# Altium footprint library dinazu.PcbLib: 22 footprints (part 1 of 2)
Each footprint in its own frame and in the unit in brackets; x right, y up, seen from the top. Pads: shape width x height; smd on the part's side, far side on the other; paste and mask are expansions set on the pad; w line width, h text height; cw(c..) or ccw(c..) is an arc to the next point about the centre after c.
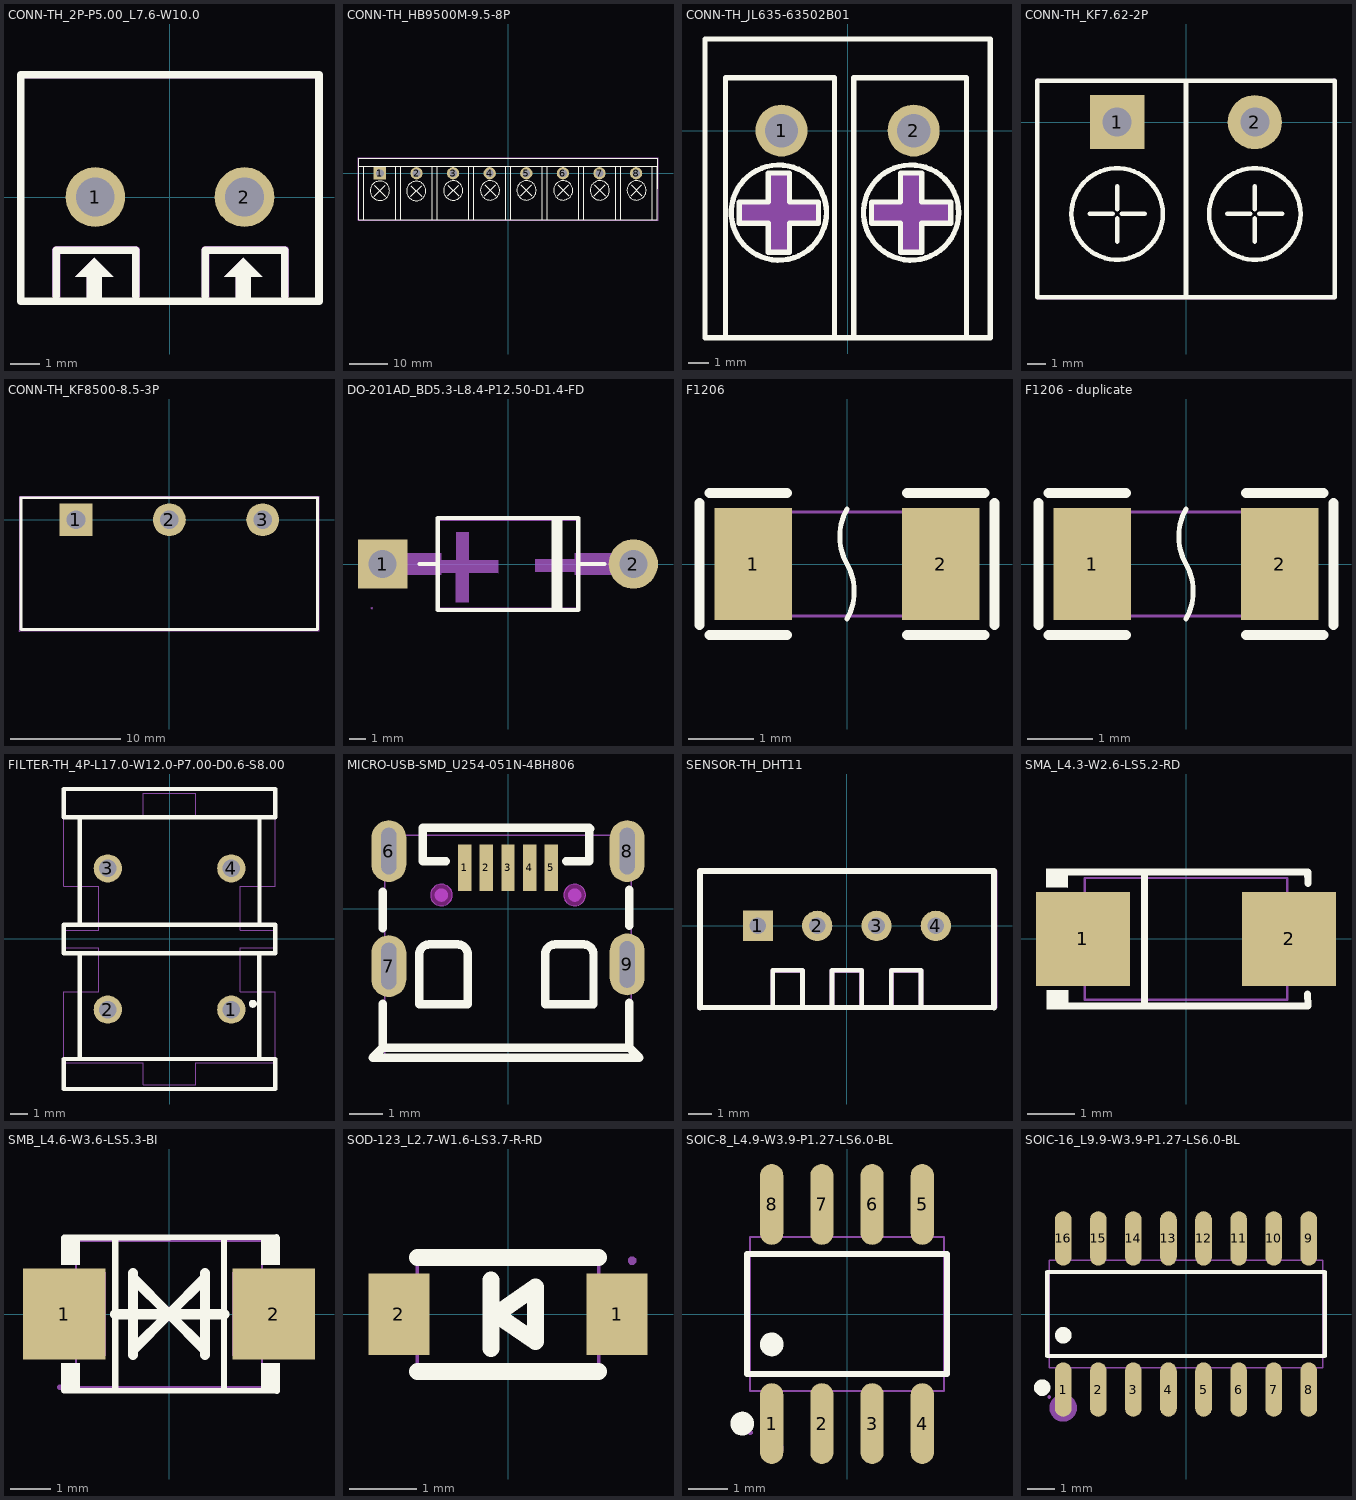
[diagram p0: the footprints below, top view; thin cyan lines are the x and y axes]

## CONN-TH_2P-P5.00_L7.6-W10.0 [mm]
pads (2):
  round 2 hole 1.3: 1(-2.5,0) 2(2.5,0)
Top Overlay:
  region: 2.206,-3.556 2.206,-2.667 1.825,-2.667 2.46,-2.032 3.095,-2.667 2.714,-2.667 2.714,-3.556
  region: -2.794,-3.556 -2.794,-2.667 -3.175,-2.667 -2.54,-2.032 -1.905,-2.667 -2.286,-2.667 -2.286,-3.556
  lines w0.254: -3.81,-3.302 -3.81,-1.778 -1.143,-1.778 -1.143,-3.302 ; 1.19,-3.302 1.19,-1.778 3.857,-1.778 3.857,-3.302 ; -5,-3.5 -5,4.1 5,4.1 5,-3.5 -5,-3.5
Mechanical 6:
  region: 1.063,-3.302 1.063,-1.778 1.063,-1.753 1.082,-1.706 1.118,-1.67 1.165,-1.651 1.19,-1.651 3.857,-1.651 3.882,-1.651 3.929,-1.67 3.965,-1.706 3.984,-1.753 3.984,-1.778 3.984,-3.302 3.984,-3.355 3.909,-3.429 3.804,-3.429 3.73,-3.355 3.73,-3.302 3.73,-1.905 1.317,-1.905 1.317,-3.302 1.317,-3.355 1.242,-3.429 1.137,-3.429 1.063,-3.355 1.063,-3.302
  region: 2.206,-3.556 2.206,-2.667 1.825,-2.667 2.46,-2.032 3.095,-2.667 2.714,-2.667 2.714,-3.556
  region: -2.794,-3.556 -2.794,-2.667 -3.175,-2.667 -2.54,-2.032 -1.905,-2.667 -2.286,-2.667 -2.286,-3.556
  region: -3.937,-3.302 -3.937,-1.778 -3.937,-1.753 -3.918,-1.706 -3.882,-1.67 -3.835,-1.651 -3.81,-1.651 -1.143,-1.651 -1.118,-1.651 -1.071,-1.67 -1.035,-1.706 -1.016,-1.753 -1.016,-1.778 -1.016,-3.302 -1.016,-3.355 -1.091,-3.429 -1.196,-3.429 -1.27,-3.355 -1.27,-3.302 -1.27,-1.905 -3.683,-1.905 -3.683,-3.302 -3.683,-3.355 -3.758,-3.429 -3.863,-3.429 -3.937,-3.355 -3.937,-3.302
Mechanical 15:
  region: 2.2,0.5 2.8,0.5 2.8,-0.5 2.2,-0.5
  region: -2.8,0.5 -2.2,0.5 -2.2,-0.5 -2.8,-0.5
  region: -4.94,-3.5 -4.94,-3.475 -4.975,-3.44 -5.025,-3.44 -5.06,-3.475 -5.06,-3.5 -5.06,-3.525 -5.025,-3.56 -4.975,-3.56 -4.94,-3.525 -4.94,-3.5
  lines w0.051: -5,-3.5 5,-3.5 5,4 -5,4 -5,-3.5
3D body "3D_PCB1_2023-10-07.step": height 11.6, standoff -2.2, extent -7.079,-3.5 5,5.901

## CONN-TH_HB9500M-9.5-8P [mm]
pads (8):
  rect 3.21x3.2 hole 2: 1(-33.25,0)
  round 3.2 hole 2: 2(-23.75,0) 3(-14.25,0) 4(-4.75,0) 5(4.75,0) 6(14.25,0) 7(23.75,0) 8(33.25,0)
Top Overlay:
  circle w0.254: c33.359,-4.437 r2.5
  circle w0.254: c23.834,-4.437 r2.5
  circle w0.254: c14.309,-4.437 r2.5
  circle w0.254: c4.784,-4.437 r2.5
  circle w0.254: c-33.25,-4.52 r2.5
  circle w0.254: c-23.82,-4.59 r2.5
  circle w0.254: c-14.22,-4.46 r2.5
  circle w0.254: c-4.66,-4.44 r2.5
  lines w0.254: -38.75,1.855 38.75,1.855 ; -37.45,-12.051 -37.45,1.749 ; -34.664,-5.934 -31.836,-3.106 ; -34.664,-3.106 -31.836,-5.934 ; -29.15,-12.051 -29.15,1.749 ; -27.85,-12.051 -27.85,1.749 ; -25.234,-6.004 -22.406,-3.176 ; -25.234,-3.176 -22.406,-6.004 ; -19.65,-12.051 -19.65,1.749 ; -18.35,-12.051 -18.35,1.749 ; -15.634,-5.874 -12.806,-3.046 ; -15.634,-3.046 -12.806,-5.874 ; -10.15,-12.051 -10.15,1.749 ; -8.85,-12.051 -8.85,1.749 ; -6.074,-5.854 -3.246,-3.026 ; -6.074,-3.026 -3.246,-5.854 ; -0.55,-12.051 -0.55,1.749 ; 0.655,-12.027 0.655,1.773 ; 3.37,-5.851 6.199,-3.022 ; 3.37,-3.022 6.199,-5.851 ; 8.855,-12.027 8.855,1.773 ; 8.88,-12.027 8.88,1.773 ; 10.154,-12.027 10.154,1.773 ; 10.18,-12.027 10.18,1.773 ; 12.895,-5.851 15.724,-3.022 ; 12.895,-3.022 15.724,-5.851 ; 18.38,-12.027 18.38,1.773 ; 18.405,-12.027 18.405,1.773 ; 19.679,-12.027 19.679,1.773 ; 19.705,-12.027 19.705,1.773 ; 22.42,-5.851 25.249,-3.022 ; 22.42,-3.022 25.249,-5.851 ; 27.905,-12.027 27.905,1.773 ; 27.93,-12.027 27.93,1.773 ; 29.204,-12.027 29.204,1.773 ; 29.23,-12.027 29.23,1.773 ; 31.945,-5.851 34.774,-3.022 ; 31.945,-3.022 34.774,-5.851 ; 37.45,-12.051 37.45,1.749 ; 37.475,-12.051 37.475,1.749 ; 38.75,3.949 -38.75,3.95 -38.75,-12.051 38.75,-12.051 38.807,3.914 ; 38.775,-12.051 38.775,1.749
Mechanical 15:
  drawing of 13 lines, arcs and shapes, not listed

## CONN-TH_JL635-63502B01 [mm]
pads (2):
  round 2.5 hole 1.6: 1(-3.175,0) 2(3.175,0)
Top Overlay:
  circle w0.254: c-3.302,-3.937 r2.286
  circle w0.254: c3.048,-3.937 r2.286
  lines w0.254: -5.863,-9.95 -5.863,2.54 -0.635,2.54 -0.635,-9.95 ; 0.301,-9.95 0.301,2.54 5.715,2.54 5.715,-9.95 ; -6.85,-9.95 -6.85,4.4 6.85,4.4 6.85,-9.95 -6.85,-9.95 ; -5.207,-4.445 -5.207,-3.429 -3.81,-3.429 -3.81,-2.032 -2.794,-2.032 -2.794,-3.429 -1.397,-3.429 -1.397,-4.445 -2.794,-4.445 -2.794,-5.842 -3.81,-5.842 -3.81,-4.445 -5.207,-4.445 ; 1.143,-4.445 1.143,-3.429 2.54,-3.429 2.54,-2.032 3.556,-2.032 3.556,-3.429 4.953,-3.429 4.953,-4.445 3.556,-4.445 3.556,-5.842 2.54,-5.842 2.54,-4.445 1.143,-4.445
Mechanical 6:
  region: -5.207,-4.445 -5.207,-3.429 -3.81,-3.429 -3.81,-2.032 -2.794,-2.032 -2.794,-3.429 -1.397,-3.429 -1.397,-4.445 -2.794,-4.445 -2.794,-5.842 -3.81,-5.842 -3.81,-4.445
  region: 1.143,-4.445 1.143,-3.429 2.54,-3.429 2.54,-2.032 3.556,-2.032 3.556,-3.429 4.953,-3.429 4.953,-4.445 3.556,-4.445 3.556,-5.842 2.54,-5.842 2.54,-4.445
Mechanical 15:
  region: -6.79,-9.95 -6.79,-9.925 -6.825,-9.89 -6.875,-9.89 -6.91,-9.925 -6.91,-9.95 -6.91,-9.975 -6.875,-10.01 -6.825,-10.01 -6.79,-9.975 -6.79,-9.95
  region: 2.675,0.35 3.675,0.35 3.675,-0.35 2.675,-0.35
  region: -3.675,0.35 -2.675,0.35 -2.675,-0.35 -3.675,-0.35
  lines w0.051: -6.85,-9.95 -6.85,4.35 6.85,4.35 6.85,-9.95 -6.85,-9.95
3D body "C409150.step": height 14.6, standoff -1.9, extent -6.965,-10.014 6.964,5.834

## CONN-TH_KF7.62-2P [mm]
height 0.254
pads (2):
  rect 3x3 hole 1.6: 1(-3.81,0)
  round 3 hole 1.6: 2(3.81,0)
Top Overlay:
  circle w0.254: c3.81,-5.08 r2.53
  circle w0.254: c-3.81,-5.08 r2.53
  lines w0.254: -5.334,-5.08 -4.064,-5.08 ; -3.81,-6.604 -3.81,-5.334 ; -3.81,-4.826 -3.81,-3.556 ; -3.556,-5.08 -2.286,-5.08 ; 0,-9.7 0,2.159 ; 2.286,-5.08 3.556,-5.08 ; 3.81,-6.604 3.81,-5.334 ; 3.81,-4.826 3.81,-3.556 ; 4.064,-5.08 5.334,-5.08 ; -8.22,-9.7 8.22,-9.7 8.22,2.3 -8.22,2.3 -8.22,-9.7
Mechanical 6:
  region: -8.14,2.22 -8.14,-9.63 -0.03,-9.63 0,-9.6 0,-9.8 -8.2,-9.8 -8.3,-9.7 -8.3,2.35 -8.25,2.4 -8.15,2.4
  region: 8.14,2.22 8.14,-9.63 0.03,-9.63 0,-9.6 0,-9.8 8.2,-9.8 8.3,-9.7 8.3,2.35 8.25,2.4 8.15,2.4
Mechanical 15:
  region: -4.31,0.35 -3.31,0.35 -3.31,-0.35 -4.31,-0.35
  region: 3.31,0.35 4.31,0.35 4.31,-0.35 3.31,-0.35
  region: -8.16,-9.7 -8.16,-9.675 -8.195,-9.64 -8.245,-9.64 -8.28,-9.675 -8.28,-9.7 -8.28,-9.725 -8.245,-9.76 -8.195,-9.76 -8.16,-9.725 -8.16,-9.7
  lines w0.051: -8.22,-9.7 -8.22,2.3 8.22,2.3 8.22,-9.7 -8.22,-9.7
3D body "3D_PCB1_2023-09-14.step": height 13.7, standoff -3.4, extent -8.342,-9.875 8.326,5.909

## CONN-TH_KF8500-8.5-3P [mm]
pads (3):
  rect 3x3 hole 1.7: 1(-8.5,0)
  round 3 hole 1.7: 2(0,0) 3(8.5,0)
Top Overlay:
  lines w0.254: -13.5,-10 13.5,-10 13.5,2 -13.5,2 -13.5,-10
Mechanical 15:
  region: -13.567,-10.127 -13.567,-10.102 -13.602,-10.067 -13.652,-10.067 -13.687,-10.102 -13.687,-10.127 -13.687,-10.152 -13.652,-10.187 -13.602,-10.187 -13.567,-10.152 -13.567,-10.127
  region: -7.75,0 -7.75,0.099 -7.801,0.289 -7.9,0.461 -8.039,0.6 -8.211,0.699 -8.401,0.75 -8.599,0.75 -8.79,0.699 -8.961,0.6 -9.1,0.461 -9.199,0.289 -9.25,0.099 -9.25,0 -9.25,-0.099 -9.199,-0.289 -9.1,-0.461 -8.961,-0.6 -8.79,-0.699 -8.599,-0.75 -8.401,-0.75 -8.211,-0.699 -8.039,-0.6 -7.9,-0.461 -7.801,-0.289 -7.75,-0.099 -7.75,0
  region: 0.75,0 0.75,0.099 0.699,0.289 0.6,0.461 0.461,0.6 0.29,0.699 0.099,0.75 -0.099,0.75 -0.289,0.699 -0.46,0.6 -0.6,0.461 -0.699,0.289 -0.75,0.099 -0.75,0 -0.75,-0.099 -0.699,-0.289 -0.6,-0.461 -0.46,-0.6 -0.289,-0.699 -0.099,-0.75 0.099,-0.75 0.29,-0.699 0.461,-0.6 0.6,-0.461 0.699,-0.289 0.75,-0.099 0.75,0
  region: 9.25,0 9.25,0.099 9.199,0.289 9.1,0.461 8.96,0.6 8.789,0.699 8.599,0.75 8.401,0.75 8.21,0.699 8.039,0.6 7.9,0.461 7.801,0.289 7.75,0.099 7.75,0 7.75,-0.099 7.801,-0.289 7.9,-0.461 8.039,-0.6 8.21,-0.699 8.401,-0.75 8.599,-0.75 8.789,-0.699 8.96,-0.6 9.1,-0.461 9.199,-0.289 9.25,-0.099 9.25,0
  lines w0.051: -13.627,-10.127 -13.627,2.127 13.627,2.127 13.627,-10.127 -13.627,-10.127

## DO-201AD_BD5.3-L8.4-P12.50-D1.4-FD [mm]
pads (2):
  rect 3x3 hole 1.7: 1(-7.62,0)
  round 3 hole 1.7: 2(7.62,0)
Top Overlay:
  lines w0.254: -5.388,0 -4.288,0 ; -4.268,-2.8 -4.268,2.8 ; -4.228,-2.8 4.272,-2.8 4.272,2.8 -4.228,2.8 ; 2.772,-2.8 2.772,2.8 ; 2.972,-2.8 2.972,2.8 ; 3.172,-2.8 3.172,2.8 ; 4.272,0 5.872,0
Mechanical 6:
  region: -3.178,-2.312 -2.398,-2.312 -2.378,-2.292 -2.378,1.908 -2.398,1.928 -3.138,1.928 -3.158,1.908 -3.158,1.488
  region: -0.588,-0.558 -0.588,0.222 -0.608,0.242 -4.808,0.242 -4.828,0.222 -4.828,-0.518 -4.808,-0.538 -4.388,-0.538
  region: 5.912,-0.498 5.912,0.282 5.892,0.302 1.692,0.302 1.672,0.282 1.672,-0.458 1.692,-0.478 2.112,-0.478
Mechanical 15:
  region: -8.21,-2.68 -8.21,-2.655 -8.245,-2.62 -8.295,-2.62 -8.33,-2.655 -8.33,-2.68 -8.33,-2.705 -8.295,-2.74 -8.245,-2.74 -8.21,-2.705 -8.21,-2.68
  region: 8.27,0 8.27,0.086 8.226,0.251 8.14,0.399 8.019,0.52 7.871,0.606 7.706,0.65 7.534,0.65 7.369,0.606 7.221,0.52 7.1,0.399 7.014,0.251 6.97,0.086 6.97,0 6.97,-0.086 7.014,-0.251 7.1,-0.399 7.221,-0.52 7.369,-0.606 7.534,-0.65 7.706,-0.65 7.871,-0.606 8.019,-0.52 8.14,-0.399 8.226,-0.251 8.27,-0.086 8.27,0
  region: -6.97,0 -6.97,0.086 -7.014,0.251 -7.1,0.399 -7.221,0.52 -7.369,0.606 -7.534,0.65 -7.706,0.65 -7.871,0.606 -8.019,0.52 -8.14,0.399 -8.226,0.251 -8.27,0.086 -8.27,0 -8.27,-0.086 -8.226,-0.251 -8.14,-0.399 -8.019,-0.52 -7.871,-0.606 -7.706,-0.65 -7.534,-0.65 -7.369,-0.606 -7.221,-0.52 -7.1,-0.399 -7.014,-0.251 -6.97,-0.086 -6.97,0
  region: -8.268,-0.645 -8.268,0.655 -4.068,0.655 -4.068,-0.645
  region: 4.073,-0.658 4.073,0.642 8.273,0.642 8.273,-0.658
  lines w0.051: -4.2,-2.65 -4.2,2.65 4.2,2.65 4.2,-2.65 -4.2,-2.65

## F1206 [mm]
pads (2):
  rect 1.19x1.728 smd: 1(-1.445,0) 2(1.445,0)
Top Overlay:
  lines w0.076: 0,-0.845 ccw(c-0.732,-0.422) 0,0 cw(c0.732,0.422) 0,0.845
  lines w0.152: -2.269,-0.94 -2.269,0.94 ; -2.116,-1.093 -0.926,-1.093 ; -2.116,1.093 -0.926,1.093 ; 0.926,-1.093 2.116,-1.093 ; 0.926,1.093 2.116,1.093 ; 2.269,-0.94 2.269,0.94
Mechanical 15:
  region: 1.1,-0.8 1.6,-0.8 1.6,0.8 1.1,0.8
  region: -1.6,-0.8 -1.1,-0.8 -1.1,0.8 -1.6,0.8
  region: -1.54,-0.8 -1.54,-0.775 -1.575,-0.74 -1.625,-0.74 -1.66,-0.775 -1.66,-0.8 -1.66,-0.825 -1.625,-0.86 -1.575,-0.86 -1.54,-0.825 -1.54,-0.8
  lines w0.051: -1.6,-0.8 -1.6,0.8 1.6,0.8 1.6,-0.8 -1.6,-0.8

## F1206 - duplicate [mm]
pads (2):
  rect 1.19x1.728 smd: 1(-1.445,0) 2(1.445,0)
Top Overlay:
  lines w0.076: 0,-0.845 ccw(c-0.732,-0.422) 0,0 cw(c0.732,0.422) 0,0.845
  lines w0.152: -2.269,-0.94 -2.269,0.94 ; -2.116,-1.093 -0.926,-1.093 ; -2.116,1.093 -0.926,1.093 ; 0.926,-1.093 2.116,-1.093 ; 0.926,1.093 2.116,1.093 ; 2.269,-0.94 2.269,0.94
Mechanical 15:
  region: 1.1,-0.8 1.6,-0.8 1.6,0.8 1.1,0.8
  region: -1.6,-0.8 -1.1,-0.8 -1.1,0.8 -1.6,0.8
  region: -1.54,-0.8 -1.54,-0.775 -1.575,-0.74 -1.625,-0.74 -1.66,-0.775 -1.66,-0.8 -1.66,-0.825 -1.625,-0.86 -1.575,-0.86 -1.54,-0.825 -1.54,-0.8
  lines w0.051: -1.6,-0.8 -1.6,0.8 1.6,0.8 1.6,-0.8 -1.6,-0.8

## FILTER-TH_4P-L17.0-W12.0-P7.00-D0.6-S8.00 [mm]
pads (4):
  round 1.6 hole 1: 1(3.5,-4) 2(-3.5,-4) 3(-3.5,4) 4(3.5,4)
Top Overlay:
  circle w0.254: c4.72,-3.67 r0.1
  lines w0.254: -5.1,-6.8 -5.1,-0.8 ; -5.1,0.9 -5.1,6.9 ; 5.098,-6.798 5.098,-0.798 ; 5.098,0.901 5.098,6.901 ; 6,8.4 6,6.9 -6,6.9 -6,8.5 6,8.5 ; -6,-8.5 -6,-7.2 -6,-6.8 6,-6.8 6,-8.5 -6,-8.5 ; -6,-0.8 -6,0.8 6,0.8 6,-0.8 -6,-0.8
Mechanical 15:
  region: 3.8,-4 3.8,-3.941 3.755,-3.831 3.67,-3.746 3.56,-3.7 3.44,-3.7 3.33,-3.746 3.246,-3.831 3.2,-3.941 3.2,-4 3.2,-4.06 3.246,-4.171 3.33,-4.255 3.44,-4.301 3.56,-4.301 3.67,-4.255 3.755,-4.171 3.8,-4.06 3.8,-4
  region: 3.8,4 3.8,4.06 3.755,4.17 3.67,4.255 3.56,4.301 3.44,4.301 3.33,4.255 3.246,4.17 3.2,4.06 3.2,4 3.2,3.941 3.246,3.83 3.33,3.746 3.44,3.7 3.56,3.7 3.67,3.746 3.755,3.83 3.8,3.941 3.8,4
  region: -3.2,4 -3.2,4.06 -3.246,4.17 -3.33,4.255 -3.44,4.301 -3.56,4.301 -3.67,4.255 -3.755,4.17 -3.8,4.06 -3.8,4 -3.8,3.941 -3.755,3.83 -3.67,3.746 -3.56,3.7 -3.44,3.7 -3.33,3.746 -3.246,3.83 -3.2,3.941 -3.2,4
  region: -3.2,-4 -3.2,-3.941 -3.246,-3.831 -3.33,-3.746 -3.44,-3.7 -3.56,-3.7 -3.67,-3.746 -3.755,-3.831 -3.8,-3.941 -3.8,-4 -3.8,-4.06 -3.755,-4.171 -3.67,-4.255 -3.56,-4.301 -3.44,-4.301 -3.33,-4.255 -3.246,-4.171 -3.2,-4.06 -3.2,-4
  region: -5.94,-8.26 -5.94,-8.235 -5.975,-8.2 -6.025,-8.2 -6.06,-8.235 -6.06,-8.26 -6.06,-8.285 -6.025,-8.32 -5.975,-8.32 -5.94,-8.285 -5.94,-8.26
  lines w0.051: -6,-7 -6,-3 -4,-3 -4,-0.5 -6,-0.5 -6,0.5 -4,0.5 -4,3 -6,3 -6,7 -1.5,7 -1.5,8.25 1.5,8.25 1.5,7 6,7 6,3 4,3 4,2.85 4,2.84 4,0.5 6,0.5 6,-0.5 4,-0.5 4,-0.66 4,-3 6,-3 6,-7 1.5,-7 1.5,-8.25 -1.49,-8.25 -1.5,-8.26 -1.5,-8.25 -1.5,-7 -6,-7

## MICRO-USB-SMD_U254-051N-4BH806 [mm]
pads (9):
  rect 0.4x1.4 smd paste-100 mask+0.051: 1(-1.3,1.225) 2(-0.65,1.225) 3(0,1.225) 4(0.65,1.225) 5(1.3,1.225)
  oval 1.05x1.85 hole 0.45 slot 1.4 at 90 deg: 6(-3.575,1.725) 7(-3.575,-1.725) 8(3.575,1.725) 9(3.575,-1.675)
Top Overlay:
  lines w0.254: -3.76,-2.858 -3.76,-4.175 ; -3.76,-0.592 -3.76,0.5 ; -1.86,1.425 -2.56,1.425 -2.56,2.425 2.44,2.425 ; -1.56,-1.075 -2.36,-1.075 ccw(c-2.36,-1.375) -2.66,-1.375 -2.66,-2.875 -1.26,-2.875 ; -1.51,-1.075 cw(c-1.51,-1.375) -1.21,-1.375 -1.21,-2.875 ; 1.74,1.425 2.44,1.425 2.44,2.425 ; 2.215,-1.075 1.415,-1.075 ccw(c1.415,-1.375) 1.115,-1.375 1.115,-2.875 2.515,-2.875 ; 2.265,-1.075 cw(c2.265,-1.375) 2.565,-1.375 2.565,-2.875 ; 2.465,2.4 cw(c2.465,2.425) 2.44,2.425 ; 3.64,-2.828 3.64,-4.175 ; 3.64,-0.522 3.64,0.572 ; -3.76,-4.175 -4.06,-4.475 3.94,-4.475 3.64,-4.175 ; -3.76,-4.175 3.64,-4.175
Top Paste:
  drawing of 9 lines, arcs and shapes, not listed
Keep-Out Layer:
  board cut-out: 2.325,0.405 2.325,0.47 2.276,0.589 2.184,0.68 2.065,0.73 1.935,0.73 1.816,0.68 1.725,0.589 1.675,0.47 1.675,0.405 1.675,0.34 1.725,0.221 1.816,0.129 1.935,0.08 2.065,0.08 2.184,0.129 2.276,0.221 2.325,0.34 2.325,0.405
  board cut-out: -1.675,0.405 -1.675,0.47 -1.724,0.589 -1.816,0.68 -1.935,0.73 -2.065,0.73 -2.184,0.68 -2.275,0.589 -2.325,0.47 -2.325,0.405 -2.325,0.34 -2.275,0.221 -2.184,0.129 -2.065,0.08 -1.935,0.08 -1.816,0.129 -1.724,0.221 -1.675,0.34 -1.675,0.405
Mechanical 1:
  circle w0.005: c2,0.405 r0.325
  circle w0.005: c-2,0.405 r0.325
Mechanical 6:
  circle w0.2: c2,0.405 r0.1
  circle w0.2: c-2,0.405 r0.1
Mechanical 15:
  region: -3.64,2.2 -3.64,2.225 -3.675,2.26 -3.725,2.26 -3.76,2.225 -3.76,2.2 -3.76,2.175 -3.725,2.14 -3.675,2.14 -3.64,2.175 -3.64,2.2
  region: -3.7,-1.275 -3.45,-1.275 -3.45,-2.175 -3.7,-2.175
  region: 3.45,-1.225 3.7,-1.225 3.7,-2.125 3.45,-2.125
  region: 3.45,2.125 3.7,2.125 3.7,1.325 3.45,1.325
  region: -3.7,2.125 -3.45,2.125 -3.45,1.325 -3.7,1.325
  region: 1.175,1.875 1.425,1.875 1.425,0.575 1.175,0.575
  region: 0.525,1.875 0.775,1.875 0.775,0.575 0.525,0.575
  region: -0.125,1.875 0.125,1.875 0.125,0.575 -0.125,0.575
  region: -0.775,1.875 -0.525,1.875 -0.525,0.575 -0.775,0.575
  region: -1.425,1.875 -1.175,1.875 -1.175,0.575 -1.425,0.575
  lines w0.051: -3.7,-4.4 -3.7,2.2 3.7,2.2 3.7,-4.4 -3.7,-4.4
Multi-Layer keep-out:
  region: 2.325,0.405 2.325,0.47 2.276,0.589 2.184,0.68 2.065,0.73 1.935,0.73 1.816,0.68 1.725,0.589 1.675,0.47 1.675,0.405 1.675,0.34 1.725,0.221 1.816,0.129 1.935,0.08 2.065,0.08 2.184,0.129 2.276,0.221 2.325,0.34 2.325,0.405
  region: -1.675,0.405 -1.675,0.47 -1.724,0.589 -1.816,0.68 -1.935,0.73 -2.065,0.73 -2.184,0.68 -2.275,0.589 -2.325,0.47 -2.325,0.405 -2.325,0.34 -2.275,0.221 -2.184,0.129 -2.065,0.08 -1.935,0.08 -1.816,0.129 -1.724,0.221 -1.675,0.34 -1.675,0.405

## SENSOR-TH_DHT11 [mil]
pads (4):
  rect 51x51 hole 28: 1(-150,0)
  round 51 hole 28: 2(-50,0) 3(50,0) 4(150,0)
Top Overlay:
  lines w8: -248.4,-137.8 150,-137.8 248.4,-137.8 ; -125,-137.8 -125,-75 -75,-75 -75,-137.8 ; -25,-137.8 -25,-75 25,-75 25,-137.8 ; 75,-137.8 75,-75 125,-75 125,-137.8
  lines w10: -248.03,-137.8 -248.03,92.5 248.03,92.5 248.4,92.14 248.4,-137.8
Mechanical 6:
  region: -243.31,-133.87 -243.31,87.78 243.7,87.78 243.7,-133.87 -237.4,-133.87 -237.4,-141.75 249.61,-141.75 253.15,-138.2 253.15,92.9 248.82,97.23 -248.82,97.23 -252.75,93.29 -252.75,-139.38 -250.39,-141.75 -237.79,-141.75 -237.79,-133.87
  region: 78.74,-133.87 71.26,-133.87 71.26,-74.03 74.02,-71.27 125.98,-71.27 128.74,-74.03 128.74,-133.48 121.26,-133.48 121.26,-79.15 120.87,-78.75 79.14,-78.75 78.74,-79.15
  region: -21.25,-133.87 -28.73,-133.87 -28.73,-74.03 -25.98,-71.27 25.99,-71.27 28.75,-74.03 28.75,-133.48 21.27,-133.48 21.27,-79.15 20.87,-78.75 -20.86,-78.75 -21.25,-79.15
  region: -121.26,-133.87 -128.74,-133.87 -128.74,-74.03 -125.98,-71.27 -74.02,-71.27 -71.26,-74.03 -71.26,-133.48 -78.74,-133.48 -78.74,-79.15 -79.13,-78.75 -120.87,-78.75 -121.26,-79.15
Mechanical 15:
  region: -245.67,-138.59 -245.67,-137.61 -247.05,-136.23 -249.01,-136.23 -250.39,-137.61 -250.39,-138.59 -250.39,-139.57 -249.01,-140.95 -247.05,-140.95 -245.67,-139.57 -245.67,-138.59
  region: -140.16,-5.91 -159.84,-5.91 -159.84,5.91 -140.16,5.91
  region: -40.16,-5.91 -59.84,-5.91 -59.84,5.91 -40.16,5.91
  region: 59.84,-5.91 40.16,-5.91 40.16,5.91 59.84,5.91
  region: 159.84,-5.91 140.16,-5.91 140.16,5.91 159.84,5.91
  lines w2: -248.03,-139.77 248.03,-139.77 248.03,92.51 -248.03,92.51 -248.03,-139.77

## SMA_L4.3-W2.6-LS5.2-RD [mm]
pads (2):
  rect 2x2 smd: 1(-2.2,0) 2(2.2,0)
Top Overlay:
  region: -2.52,1.502 -2.521,1.096 -2.981,1.1 -2.977,1.502
  region: -2.512,-1.096 -2.513,-1.503 -2.973,-1.498 -2.969,-1.096
  lines w0.152: -2.596,-1.426 2.596,-1.426 ; -2.596,1.426 2.596,1.426 2.603,1.187 ; -0.884,-1.426 -0.884,1.426 ; 2.593,-1.176 2.6,-1.415
Mechanical 6:
  region: -2.317,-0.101 -2.317,0.101 -1.507,0.101 -1.507,-0.101
  region: 2.29,-0.09 2.29,0.112 1.48,0.112 1.48,-0.09
  region: 2.014,-0.675 2.014,0.675 1.811,0.675 1.811,-0.675
Mechanical 15:
  region: -2.545,-1.3 -2.545,-1.275 -2.58,-1.24 -2.63,-1.24 -2.665,-1.275 -2.665,-1.3 -2.665,-1.325 -2.63,-1.36 -2.58,-1.36 -2.545,-1.325 -2.545,-1.3
  region: 2.605,0.725 2.605,-0.725 1.48,-0.725 1.48,0.725
  region: -1.48,0.725 -1.48,-0.725 -2.605,-0.725 -2.605,0.725
  lines w0.051: -2.16,-1.3 -2.16,1.3 2.16,1.3 2.16,-1.3 -2.16,-1.3

## SMB_L4.6-W3.6-LS5.3-BI [mm]
pads (2):
  rect 2.047x2.241 smd: 1(-2.591,0) 2(2.591,0)
Top Overlay:
  region: 2.286,-1.905 2.286,-1.215 2.743,-1.215 2.743,-1.905
  region: 2.286,1.905 2.286,1.215 2.743,1.215 2.743,1.905
  region: -2.667,1.905 -2.667,1.215 -2.21,1.215 -2.21,1.905
  region: -2.667,-1.905 -2.667,-1.215 -2.21,-1.215 -2.21,-1.905
  lines w0.152: -2.599,-1.89 2.667,-1.905 ; -2.591,1.887 2.663,1.905 ; -1.331,-1.886 -1.331,1.886 ; 1.364,-1.886 1.364,1.886
  lines w0.254: -1.331,-0.008 1.364,-0.008 ; 0,0 0.889,0.889 0.889,1.016 0.889,-1.016 0.889,-0.889 0,0 ; 0,0 -0.889,-0.889 -0.889,-1.016 -0.889,1.016 -0.889,0.889 0,0
Mechanical 15:
  region: -2.648,-1.81 -2.648,-1.785 -2.683,-1.75 -2.732,-1.75 -2.768,-1.785 -2.768,-1.81 -2.768,-1.835 -2.732,-1.87 -2.683,-1.87 -2.648,-1.835 -2.648,-1.81
  region: 2.708,1.037 2.708,-1.037 1.568,-1.037 1.568,1.037
  region: -2.708,1.037 -2.708,-1.037 -1.568,-1.037 -1.568,1.037
  lines w0.051: -2.3,-1.81 2.3,-1.81 2.3,1.81 -2.3,1.81 -2.3,-1.81

## SOD-123_L2.7-W1.6-LS3.7-R-RD [mil]
pads (2):
  rect 35.8x48 smd: 1(64,0) 2(-64,0)
Top Overlay:
  lines w10: -53,-33.47 53,-33.47 ; -53,33.47 53,33.47 ; -10,-20 -10,20 ; -7,0 16,-16 16,16 -7,0
Mechanical 6:
  region: -80.38,4.87 -47.23,4.87 -47.23,-3.27 -80.4,-3.27
  region: 60.02,-13.32 60.02,19.82 68.17,19.82 68.17,-13.35
  region: 46.85,8.35 80,8.35 80,0.2 46.82,0.2
Mechanical 15:
  region: 59.05,-10.83 59.05,10.83 72.83,10.83 72.83,-10.83
  region: 52.76,-10.83 52.76,10.83 59.45,10.83 59.45,-10.83
  region: -72.83,-10.83 -72.83,10.83 -59.05,10.83 -59.05,-10.83
  region: -59.45,-10.83 -59.45,10.83 -52.76,10.83 -52.76,-10.83
  region: 75.2,31.5 75.2,32.47 73.81,33.86 71.86,33.86 70.47,32.47 70.47,31.5 70.47,30.52 71.86,29.13 73.81,29.13 75.2,30.52 75.2,31.5
  lines w2: -53.15,-31.5 53.15,-31.5 53.15,31.5 -53.15,31.5 -53.15,-31.5

## SOIC-8_L4.9-W3.9-P1.27-LS6.0-BL [mm]
pads (8):
  oval 0.588x2.045 smd: 1(-1.905,-2.772) 2(-0.635,-2.772) 3(0.635,-2.772) 4(1.905,-2.772) 5(1.905,2.772) 6(0.635,2.772) 7(-0.635,2.772) 8(-1.905,2.772)
Top Overlay:
  circle w0.3: c-1.905,-0.769 r0.15
  circle w0.3: c-2.652,-2.772 r0.15
  lines w0.152: -2.526,-1.521 -2.526,1.521 2.526,1.521 2.526,-1.521 -2.526,-1.521
Mechanical 6:
  circle w0.3: c-1.905,-3.4 r0.15
Mechanical 15:
  region: -2.39,-3 -2.39,-2.975 -2.425,-2.94 -2.475,-2.94 -2.51,-2.975 -2.51,-3 -2.51,-3.025 -2.475,-3.06 -2.425,-3.06 -2.39,-3.025 -2.39,-3
  region: -2.115,-3 -2.115,-2.165 -1.695,-2.165 -1.695,-3
  region: -2.115,-2.175 -2.115,-1.94 -1.695,-1.94 -1.695,-2.175
  region: -0.845,-3 -0.845,-2.165 -0.425,-2.165 -0.425,-3
  region: -0.845,-2.175 -0.845,-1.94 -0.425,-1.94 -0.425,-2.175
  region: 0.425,-3 0.425,-2.165 0.845,-2.165 0.845,-3
  region: 0.425,-2.175 0.425,-1.94 0.845,-1.94 0.845,-2.175
  region: 1.695,-3 1.695,-2.165 2.115,-2.165 2.115,-3
  region: 1.695,-2.175 1.695,-1.94 2.115,-1.94 2.115,-2.175
  region: -2.115,3 -2.115,2.165 -1.695,2.165 -1.695,3
  region: -2.115,2.175 -2.115,1.94 -1.695,1.94 -1.695,2.175
  region: -0.845,3 -0.845,2.165 -0.425,2.165 -0.425,3
  region: -0.845,2.175 -0.845,1.94 -0.425,1.94 -0.425,2.175
  region: 0.425,3 0.425,2.165 0.845,2.165 0.845,3
  region: 0.425,2.175 0.425,1.94 0.845,1.94 0.845,2.175
  region: 1.695,3 1.695,2.165 2.115,2.165 2.115,3
  region: 1.695,2.175 1.695,1.94 2.115,1.94 2.115,2.175
  lines w0.051: -2.45,-1.95 -2.45,1.95 2.45,1.95 2.45,-1.95 -2.45,-1.95

## SOIC-16_L9.9-W3.9-P1.27-LS6.0-BL [mm]
pads (16):
  oval 0.602x1.971 smd: 1(-4.445,-2.736) 2(-3.175,-2.736) 3(-1.905,-2.736) 4(-0.635,-2.736) 5(0.635,-2.736) 6(1.905,-2.736) 7(3.175,-2.736) 8(4.445,-2.736) 9(4.445,2.736) 10(3.175,2.736) 11(1.905,2.736) 12(0.635,2.736) 13(-0.635,2.736) 14(-1.905,2.736) 15(-3.175,2.736) 16(-4.445,2.736)
Top Overlay:
  circle w0.3: c-4.445,-0.769 r0.15
  circle w0.3: c-5.207,-2.667 r0.15
  lines w0.152: -5.026,-1.521 -5.026,1.521 5.026,1.521 5.026,-1.521 -5.026,-1.521
Mechanical 6:
  circle w0.5: c-4.445,-3.4 r0.25
Mechanical 15:
  drawing of 37 lines, arcs and shapes, not listed